# EAGLE library part MC14011B (library on-semi)
Quad 2-Input NAND Gate
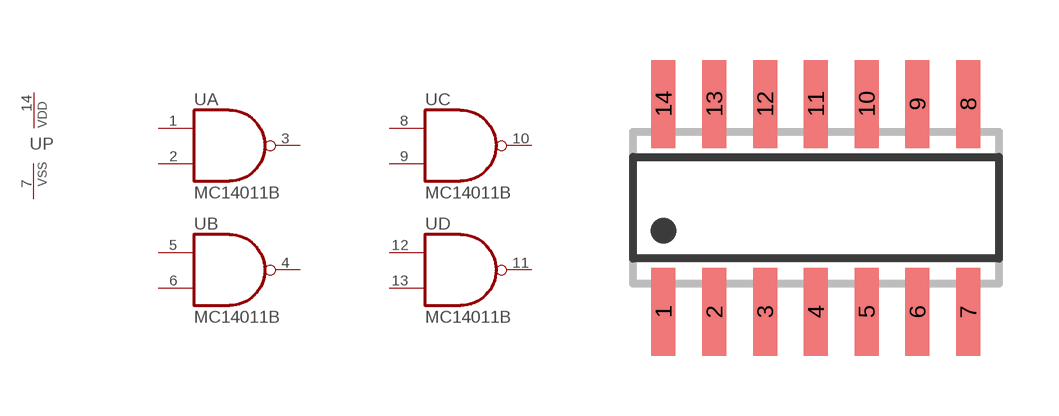
[diagram p4: symbol with the pads of SO14; footprint SO14]

Designator prefix U; gates A=MC14011B B=MC14011B C=MC14011B D=MC14011B P=PWRN_VDDVSS

## MC14011B  [SO14]
1  A:IN1  in
2  A:IN2  in
3  A:OUT  out
4  B:OUT  out
5  B:IN1  in
6  B:IN2  in
7  P:VSS  pwr
8  C:IN1  in
9  C:IN2  in
10  C:OUT  out
11  D:OUT  out
12  D:IN1  in
13  D:IN2  in
14  P:VDD  pwr

## Footprint SO14 (pad centres in mm)
SMALL OUTLINE INTEGRATED CIRCUIT body 3.9 mm/JEDEC MS-012AC
smd 0.6 x 2.2: 1 -3.81,-2.6; 2 -2.54,-2.6; 3 -1.27,-2.6; 4 0,-2.6; 5 1.27,-2.6; 6 2.54,-2.6; 7 3.81,-2.6; 8 3.81,2.6; 9 2.54,2.6; 10 1.27,2.6; 11 0,2.6; 12 -1.27,2.6; 13 -2.54,2.6; 14 -3.81,2.6